# Altium footprint library Embedded.PcbLib: 8 footprints (part 3 of 3)
Each footprint in its own frame and in the unit in brackets; x right, y up, seen from the top. Pads: shape width x height; smd on the part's side, far side on the other; paste and mask are expansions set on the pad; w line width, h text height; cw(c..) or ccw(c..) is an arc to the next point about the centre after c.
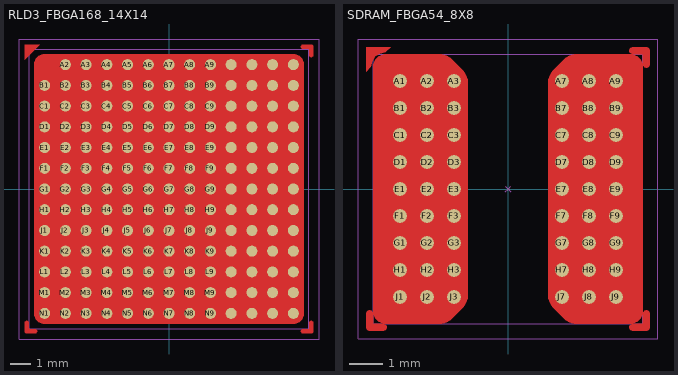
[diagram p2: the footprints below, top view; thin cyan lines are the x and y axes]

## RLD3_FBGA168_14X14 [mil] "RLDRAM3"
height 43.31
pads (168):
  round 21 smd mask+2: A2(-196.85,236.22) A3(-157.48,236.22) A4(-118.11,236.22) A5(-78.74,236.22) A6(-39.37,236.22) A7(0,236.22) A8(39.37,236.22) A9(78.74,236.22) A10(118.11,236.22) A11(157.48,236.22) A12(196.85,236.22) A13(236.22,236.22) B1(-236.22,196.85) B2(-196.85,196.85) B3(-157.48,196.85) B4(-118.11,196.85) B5(-78.74,196.85) B6(-39.37,196.85) B7(0,196.85) B8(39.37,196.85) B9(78.74,196.85) B10(118.11,196.85) B11(157.48,196.85) B12(196.85,196.85) B13(236.22,196.85) C1(-236.22,157.48) C2(-196.85,157.48) C3(-157.48,157.48) C4(-118.11,157.48) C5(-78.74,157.48) C6(-39.37,157.48) C7(0,157.48) C8(39.37,157.48) C9(78.74,157.48) C10(118.11,157.48) C11(157.48,157.48) C12(196.85,157.48) C13(236.22,157.48) D1(-236.22,118.11) D2(-196.85,118.11) D3(-157.48,118.11) D4(-118.11,118.11) D5(-78.74,118.11) D6(-39.37,118.11) D7(0,118.11) D8(39.37,118.11) D9(78.74,118.11) D10(118.11,118.11) D11(157.48,118.11) D12(196.85,118.11) D13(236.22,118.11) E1(-236.22,78.74) E2(-196.85,78.74) E3(-157.48,78.74) E4(-118.11,78.74) E5(-78.74,78.74) E6(-39.37,78.74) E7(0,78.74) E8(39.37,78.74) E9(78.74,78.74) E10(118.11,78.74) E11(157.48,78.74) E12(196.85,78.74) E13(236.22,78.74) F1(-236.22,39.37) F2(-196.85,39.37) F3(-157.48,39.37) F4(-118.11,39.37) F5(-78.74,39.37) F6(-39.37,39.37) F7(0,39.37) F8(39.37,39.37) F9(78.74,39.37) F10(118.11,39.37) F11(157.48,39.37) F12(196.85,39.37) F13(236.22,39.37) G1(-236.22,0) G2(-196.85,0) G3(-157.48,0) G4(-118.11,0) G5(-78.74,0) G6(-39.37,0) G7(0,0) G8(39.37,0) G9(78.74,0) G10(118.11,0) G11(157.48,0) G12(196.85,0) G13(236.22,0) H1(-236.22,-39.37) H2(-196.85,-39.37) H3(-157.48,-39.37) H4(-118.11,-39.37) H5(-78.74,-39.37) H6(-39.37,-39.37) H7(0,-39.37) H8(39.37,-39.37) H9(78.74,-39.37) H10(118.11,-39.37) H11(157.48,-39.37) H12(196.85,-39.37) H13(236.22,-39.37) J1(-236.22,-78.74) J2(-196.85,-78.74) J3(-157.48,-78.74) J4(-118.11,-78.74) J5(-78.74,-78.74) J6(-39.37,-78.74) J7(0,-78.74) J8(39.37,-78.74) J9(78.74,-78.74) J10(118.11,-78.74) J11(157.48,-78.74) J12(196.85,-78.74) J13(236.22,-78.74) K1(-236.22,-118.11) K2(-196.85,-118.11) K3(-157.48,-118.11) K4(-118.11,-118.11) K5(-78.74,-118.11) K6(-39.37,-118.11) K7(0,-118.11) K8(39.37,-118.11) K9(78.74,-118.11) K10(118.11,-118.11) K11(157.48,-118.11) K12(196.85,-118.11) K13(236.22,-118.11) L1(-236.22,-157.48) L2(-196.85,-157.48) L3(-157.48,-157.48) L4(-118.11,-157.48) L5(-78.74,-157.48) L6(-39.37,-157.48) L7(0,-157.48) L8(39.37,-157.48) L9(78.74,-157.48) L10(118.11,-157.48) L11(157.48,-157.48) L12(196.85,-157.48) L13(236.22,-157.48) M1(-236.22,-196.85) M2(-196.85,-196.85) M3(-157.48,-196.85) M4(-118.11,-196.85) M5(-78.74,-196.85) M6(-39.37,-196.85) M7(0,-196.85) M8(39.37,-196.85) M9(78.74,-196.85) M10(118.11,-196.85) M11(157.48,-196.85) M12(196.85,-196.85) M13(236.22,-196.85) N1(-236.22,-236.22) N2(-196.85,-236.22) N3(-157.48,-236.22) N4(-118.11,-236.22) N5(-78.74,-236.22) N6(-39.37,-236.22) N7(0,-236.22) N8(39.37,-236.22) N9(78.74,-236.22) N10(118.11,-236.22) N11(157.48,-236.22) N12(196.85,-236.22) N13(236.22,-236.22)
Top Layer:
  region: 266.21,254.21 266.21,253.42 266.82,251.95 267.95,250.82 269.42,250.21 270.21,250.21 271.01,250.21 272.48,250.82 273.6,251.95 274.21,253.42 274.21,254.21 274.21,270.21 274.21,271.01 273.6,272.48 272.48,273.6 271.01,274.21 270.21,274.21 254.21,274.21 253.42,274.21 251.95,273.6 250.82,272.48 250.21,271.01 250.21,270.21 250.21,269.42 250.82,267.95 251.95,266.82 253.42,266.21 254.21,266.21 264.21,266.21 264.6,266.17 265.32,265.88 265.87,265.32 266.17,264.6 266.21,264.21
  region: 254.21,-266.21 253.42,-266.21 251.95,-266.82 250.82,-267.95 250.21,-269.42 250.21,-270.21 250.21,-271.01 250.82,-272.48 251.95,-273.6 253.42,-274.21 254.21,-274.21 270.21,-274.21 271.01,-274.21 272.48,-273.6 273.6,-272.48 274.21,-271.01 274.21,-270.21 274.21,-254.21 274.21,-253.42 273.6,-251.95 272.48,-250.82 271.01,-250.21 270.21,-250.21 269.42,-250.21 267.95,-250.82 266.82,-251.95 266.21,-253.42 266.21,-254.21 266.21,-264.21 266.17,-264.6 265.88,-265.32 265.32,-265.87 264.6,-266.17 264.21,-266.21
  region: -266.21,-254.21 -266.21,-253.42 -266.82,-251.95 -267.95,-250.82 -269.42,-250.21 -270.21,-250.21 -271.01,-250.21 -272.48,-250.82 -273.6,-251.95 -274.21,-253.42 -274.21,-254.21 -274.21,-270.21 -274.21,-271.01 -273.6,-272.48 -272.48,-273.6 -271.01,-274.21 -270.21,-274.21 -254.21,-274.21 -253.42,-274.21 -251.95,-273.6 -250.82,-272.48 -250.21,-271.01 -250.21,-270.21 -250.21,-269.42 -250.82,-267.95 -251.95,-266.82 -253.42,-266.21 -254.21,-266.21 -264.21,-266.21 -264.6,-266.17 -265.32,-265.88 -265.87,-265.32 -266.17,-264.6 -266.21,-264.21
  region: -274.21,274.21 -274.21,245.67 -245.67,274.21
  pour cut-out: 236.22,255.91 240.14,255.91 247.37,252.91 252.91,247.37 255.91,240.14 255.91,236.22 255.91,-236.22 255.91,-240.14 252.91,-247.37 247.37,-252.91 240.14,-255.91 236.22,-255.91 -236.22,-255.91 -240.14,-255.91 -247.37,-252.91 -252.91,-247.37 -255.91,-240.14 -255.91,-236.22 -255.91,236.22 -255.91,240.14 -252.91,247.37 -247.37,252.91 -240.14,255.91 -236.22,255.91
Top Designator:
  text ".Designator" at -127.64,-12.5 h35
Top Component Center:
  lines w1: -3,-3 0,0 ; -3,3 0,0 ; 3,-3 0,0 ; 3,3 0,0
Top Courtyard:
  lines w1: -285,-285 -285,285 285,285 285,-285 -285,-285
Top Component Outline:
  lines w1: -265.75,-265.75 -265.75,265.75 265.75,265.75 265.75,-265.75 -265.75,-265.75
3D body: height 43.4, standoff 43, extent -247.95,228.07 -228.03,248.04
3D body: height 43.31, standoff 11.81, extent -265.75,-265.75 265.75,265.75
3D body: height 21.81, standoff -1.81, extent -247.95,-51.18 -224.5,-27.55
3D body: height 21.81, standoff -1.81, extent -247.95,-90.55 -224.5,-66.92
3D body: height 21.81, standoff -1.81, extent -247.95,-129.92 -224.5,-106.29
3D body: height 21.81, standoff -1.81, extent -247.95,-169.29 -224.5,-145.66
3D body: height 21.81, standoff -1.81, extent -247.95,-208.66 -224.5,-185.03
3D body: height 21.81, standoff -1.81, extent -247.95,-248.03 -224.5,-224.4
3D body: height 21.81, standoff -1.81, extent -247.95,-11.81 -224.5,11.82
3D body: height 21.81, standoff -1.81, extent -247.95,27.56 -224.5,51.19
3D body: height 21.81, standoff -1.81, extent -247.95,66.93 -224.5,90.56
3D body: height 21.81, standoff -1.81, extent -247.95,106.3 -224.5,129.93
3D body: height 21.81, standoff -1.81, extent -247.95,145.67 -224.5,169.3
3D body: height 21.81, standoff -1.81, extent -247.95,185.04 -224.5,208.67
3D body: height 21.81, standoff -1.81, extent -208.58,224.41 -185.13,248.04
3D body: height 21.81, standoff -1.81, extent -208.58,185.04 -185.13,208.67
3D body: height 21.81, standoff -1.81, extent -208.58,145.67 -185.13,169.3
3D body: height 21.81, standoff -1.81, extent -208.58,106.3 -185.13,129.93
3D body: height 21.81, standoff -1.81, extent -208.58,66.93 -185.13,90.56
3D body: height 21.81, standoff -1.81, extent -208.58,27.56 -185.13,51.19
3D body: height 21.81, standoff -1.81, extent -208.58,-11.81 -185.13,11.82
3D body: height 21.81, standoff -1.81, extent -208.58,-248.03 -185.13,-224.4
3D body: height 21.81, standoff -1.81, extent -208.58,-208.66 -185.13,-185.03
3D body: height 21.81, standoff -1.81, extent -208.58,-169.29 -185.13,-145.66
3D body: height 21.81, standoff -1.81, extent -208.58,-129.92 -185.13,-106.29
3D body: height 21.81, standoff -1.81, extent -208.58,-90.55 -185.13,-66.92
3D body: height 21.81, standoff -1.81, extent -208.58,-51.18 -185.13,-27.55
3D body: height 21.81, standoff -1.81, extent -169.21,224.41 -145.76,248.04
3D body: height 21.81, standoff -1.81, extent -169.21,185.04 -145.76,208.67
3D body: height 21.81, standoff -1.81, extent -169.21,145.67 -145.76,169.3
3D body: height 21.81, standoff -1.81, extent -169.21,106.3 -145.76,129.93
3D body: height 21.81, standoff -1.81, extent -169.21,66.93 -145.76,90.56
3D body: height 21.81, standoff -1.81, extent -169.21,27.56 -145.76,51.19
3D body: height 21.81, standoff -1.81, extent -169.21,-11.81 -145.76,11.82
3D body: height 21.81, standoff -1.81, extent -169.21,-248.03 -145.76,-224.4
3D body: height 21.81, standoff -1.81, extent -169.21,-208.66 -145.76,-185.03
3D body: height 21.81, standoff -1.81, extent -169.21,-169.29 -145.76,-145.66
3D body: height 21.81, standoff -1.81, extent -169.21,-129.92 -145.76,-106.29
3D body: height 21.81, standoff -1.81, extent -169.21,-90.55 -145.76,-66.92
3D body: height 21.81, standoff -1.81, extent -169.21,-51.18 -145.76,-27.55
3D body: height 21.81, standoff -1.81, extent -129.84,224.41 -106.39,248.04
3D body: height 21.81, standoff -1.81, extent -129.84,185.04 -106.39,208.67
3D body: height 21.81, standoff -1.81, extent -129.84,145.67 -106.39,169.3
3D body: height 21.81, standoff -1.81, extent -129.84,106.3 -106.39,129.93
3D body: height 21.81, standoff -1.81, extent -129.84,66.93 -106.39,90.56
3D body: height 21.81, standoff -1.81, extent -129.84,27.56 -106.39,51.19
3D body: height 21.81, standoff -1.81, extent -129.84,-11.81 -106.39,11.82
3D body: height 21.81, standoff -1.81, extent -129.84,-248.03 -106.39,-224.4
3D body: height 21.81, standoff -1.81, extent -129.84,-208.66 -106.39,-185.03
3D body: height 21.81, standoff -1.81, extent -129.84,-169.29 -106.39,-145.66
3D body: height 21.81, standoff -1.81, extent -129.84,-129.92 -106.39,-106.29
3D body: height 21.81, standoff -1.81, extent -129.84,-90.55 -106.39,-66.92
3D body: height 21.81, standoff -1.81, extent -129.84,-51.18 -106.39,-27.55
3D body: height 21.81, standoff -1.81, extent -90.46,224.41 -67.02,248.04
3D body: height 21.81, standoff -1.81, extent -90.46,185.04 -67.02,208.67
3D body: height 21.81, standoff -1.81, extent -90.46,145.67 -67.02,169.3
3D body: height 21.81, standoff -1.81, extent -90.46,106.3 -67.02,129.93
3D body: height 21.81, standoff -1.81, extent -90.46,66.93 -67.02,90.56
3D body: height 21.81, standoff -1.81, extent -90.46,27.56 -67.02,51.19
3D body: height 21.81, standoff -1.81, extent -90.46,-11.81 -67.02,11.82
3D body: height 21.81, standoff -1.81, extent -90.46,-248.03 -67.02,-224.4
3D body: height 21.81, standoff -1.81, extent -90.46,-208.66 -67.02,-185.03
3D body: height 21.81, standoff -1.81, extent -90.46,-169.29 -67.02,-145.66
3D body: height 21.81, standoff -1.81, extent -90.46,-129.92 -67.02,-106.29
3D body: height 21.81, standoff -1.81, extent -90.46,-90.55 -67.02,-66.92
3D body: height 21.81, standoff -1.81, extent -90.46,-51.18 -67.02,-27.55
3D body: height 21.81, standoff -1.81, extent 106.39,-51.18 129.84,-27.55
3D body: height 21.81, standoff -1.81, extent 106.39,-90.55 129.84,-66.92
3D body: height 21.81, standoff -1.81, extent 106.39,-129.92 129.84,-106.29
3D body: height 21.81, standoff -1.81, extent 106.39,-169.29 129.84,-145.66
3D body: height 21.81, standoff -1.81, extent 106.39,-208.66 129.84,-185.03
3D body: height 21.81, standoff -1.81, extent 106.39,-248.03 129.84,-224.4
3D body: height 21.81, standoff -1.81, extent 106.39,-11.81 129.84,11.82
3D body: height 21.81, standoff -1.81, extent 106.39,27.56 129.84,51.19
3D body: height 21.81, standoff -1.81, extent 106.39,66.93 129.84,90.56
3D body: height 21.81, standoff -1.81, extent 106.39,106.3 129.84,129.93
3D body: height 21.81, standoff -1.81, extent 106.39,145.67 129.84,169.3
3D body: height 21.81, standoff -1.81, extent 106.39,185.04 129.84,208.67
3D body: height 21.81, standoff -1.81, extent 106.39,224.41 129.84,248.04
3D body: height 21.81, standoff -1.81, extent 67.02,-51.18 90.47,-27.55
3D body: height 21.81, standoff -1.81, extent 67.02,-90.55 90.47,-66.92
3D body: height 21.81, standoff -1.81, extent 67.02,-129.92 90.47,-106.29
3D body: height 21.81, standoff -1.81, extent 67.02,-169.29 90.47,-145.66
3D body: height 21.81, standoff -1.81, extent 67.02,-208.66 90.47,-185.03
3D body: height 21.81, standoff -1.81, extent 67.02,-248.03 90.47,-224.4
3D body: height 21.81, standoff -1.81, extent 67.02,-11.81 90.47,11.82
3D body: height 21.81, standoff -1.81, extent 67.02,27.56 90.47,51.19
3D body: height 21.81, standoff -1.81, extent 67.02,66.93 90.47,90.56
3D body: height 21.81, standoff -1.81, extent 67.02,106.3 90.47,129.93
3D body: height 21.81, standoff -1.81, extent 67.02,145.67 90.47,169.3
3D body: height 21.81, standoff -1.81, extent 67.02,185.04 90.47,208.67
3D body: height 21.81, standoff -1.81, extent 67.02,224.41 90.47,248.04
3D body: height 21.81, standoff -1.81, extent 27.65,-51.18 51.09,-27.55
3D body: height 21.81, standoff -1.81, extent 27.65,-90.55 51.09,-66.92
3D body: height 21.81, standoff -1.81, extent 27.65,-129.92 51.09,-106.29
3D body: height 21.81, standoff -1.81, extent 27.65,-169.29 51.09,-145.66
3D body: height 21.81, standoff -1.81, extent 27.65,-208.66 51.09,-185.03
3D body: height 21.81, standoff -1.81, extent 27.65,-248.03 51.09,-224.4
3D body: height 21.81, standoff -1.81, extent 27.65,-11.81 51.09,11.82
3D body: height 21.81, standoff -1.81, extent 27.65,27.56 51.09,51.19
3D body: height 21.81, standoff -1.81, extent 27.65,66.93 51.09,90.56
3D body: height 21.81, standoff -1.81, extent 27.65,106.3 51.09,129.93
3D body: height 21.81, standoff -1.81, extent 27.65,145.67 51.09,169.3
3D body: height 21.81, standoff -1.81, extent 27.65,185.04 51.09,208.67
3D body: height 21.81, standoff -1.81, extent 27.65,224.41 51.09,248.04
3D body: height 21.81, standoff -1.81, extent -11.72,-51.18 11.72,-27.55
3D body: height 21.81, standoff -1.81, extent -11.72,-90.55 11.72,-66.92
3D body: height 21.81, standoff -1.81, extent -11.72,-129.92 11.72,-106.29
3D body: height 21.81, standoff -1.81, extent -11.72,-169.29 11.72,-145.66
3D body: height 21.81, standoff -1.81, extent -11.72,-208.66 11.72,-185.03
3D body: height 21.81, standoff -1.81, extent -11.72,-248.03 11.72,-224.4
3D body: height 21.81, standoff -1.81, extent -11.72,-11.81 11.72,11.82
3D body: height 21.81, standoff -1.81, extent -11.72,27.56 11.72,51.19
3D body: height 21.81, standoff -1.81, extent -11.72,66.93 11.72,90.56
3D body: height 21.81, standoff -1.81, extent -11.72,106.3 11.72,129.93
3D body: height 21.81, standoff -1.81, extent -11.72,145.67 11.72,169.3
3D body: height 21.81, standoff -1.81, extent -11.72,185.04 11.72,208.67
3D body: height 21.81, standoff -1.81, extent -11.72,224.41 11.72,248.04
3D body: height 21.81, standoff -1.81, extent -51.09,224.41 -27.65,248.04
3D body: height 21.81, standoff -1.81, extent -51.09,185.04 -27.65,208.67
3D body: height 21.81, standoff -1.81, extent -51.09,145.67 -27.65,169.3
3D body: height 21.81, standoff -1.81, extent -51.09,106.3 -27.65,129.93
3D body: height 21.81, standoff -1.81, extent -51.09,66.93 -27.65,90.56
3D body: height 21.81, standoff -1.81, extent -51.09,27.56 -27.65,51.19
3D body: height 21.81, standoff -1.81, extent -51.09,-11.81 -27.65,11.82
3D body: height 21.81, standoff -1.81, extent -51.09,-248.03 -27.65,-224.4
3D body: height 21.81, standoff -1.81, extent -51.09,-208.66 -27.65,-185.03
3D body: height 21.81, standoff -1.81, extent -51.09,-169.29 -27.65,-145.66
3D body: height 21.81, standoff -1.81, extent -51.09,-129.92 -27.65,-106.29
3D body: height 21.81, standoff -1.81, extent -51.09,-90.55 -27.65,-66.92
3D body: height 21.81, standoff -1.81, extent -51.09,-51.18 -27.65,-27.55
3D body: height 21.81, standoff -1.81, extent 145.76,224.41 169.21,248.04
3D body: height 21.81, standoff -1.81, extent 145.76,185.04 169.21,208.67
3D body: height 21.81, standoff -1.81, extent 145.76,145.67 169.21,169.3
3D body: height 21.81, standoff -1.81, extent 145.76,106.3 169.21,129.93
3D body: height 21.81, standoff -1.81, extent 145.76,66.93 169.21,90.56
3D body: height 21.81, standoff -1.81, extent 145.76,27.56 169.21,51.19
3D body: height 21.81, standoff -1.81, extent 145.76,-11.81 169.21,11.82
3D body: height 21.81, standoff -1.81, extent 145.76,-248.03 169.21,-224.4
3D body: height 21.81, standoff -1.81, extent 145.76,-208.66 169.21,-185.03
3D body: height 21.81, standoff -1.81, extent 145.76,-169.29 169.21,-145.66
3D body: height 21.81, standoff -1.81, extent 145.76,-129.92 169.21,-106.29
3D body: height 21.81, standoff -1.81, extent 145.76,-90.55 169.21,-66.92
3D body: height 21.81, standoff -1.81, extent 145.76,-51.18 169.21,-27.55
3D body: height 21.81, standoff -1.81, extent 185.13,224.41 208.58,248.04
3D body: height 21.81, standoff -1.81, extent 185.13,185.04 208.58,208.67
3D body: height 21.81, standoff -1.81, extent 185.13,145.67 208.58,169.3
3D body: height 21.81, standoff -1.81, extent 185.13,106.3 208.58,129.93
3D body: height 21.81, standoff -1.81, extent 185.13,66.93 208.58,90.56
3D body: height 21.81, standoff -1.81, extent 185.13,27.56 208.58,51.19
3D body: height 21.81, standoff -1.81, extent 185.13,-11.81 208.58,11.82
3D body: height 21.81, standoff -1.81, extent 185.13,-248.03 208.58,-224.4
3D body: height 21.81, standoff -1.81, extent 185.13,-208.66 208.58,-185.03
3D body: height 21.81, standoff -1.81, extent 185.13,-169.29 208.58,-145.66
3D body: height 21.81, standoff -1.81, extent 185.13,-129.92 208.58,-106.29
3D body: height 21.81, standoff -1.81, extent 185.13,-90.55 208.58,-66.92
3D body: height 21.81, standoff -1.81, extent 185.13,-51.18 208.58,-27.55
3D body: height 21.81, standoff -1.81, extent 224.5,224.41 247.95,248.04
3D body: height 21.81, standoff -1.81, extent 224.5,185.04 247.95,208.67
3D body: height 21.81, standoff -1.81, extent 224.5,145.67 247.95,169.3
3D body: height 21.81, standoff -1.81, extent 224.5,106.3 247.95,129.93
3D body: height 21.81, standoff -1.81, extent 224.5,66.93 247.95,90.56
3D body: height 21.81, standoff -1.81, extent 224.5,27.56 247.95,51.19
3D body: height 21.81, standoff -1.81, extent 224.5,-11.81 247.95,11.82
3D body: height 21.81, standoff -1.81, extent 224.5,-248.03 247.95,-224.4
3D body: height 21.81, standoff -1.81, extent 224.5,-208.66 247.95,-185.03
3D body: height 21.81, standoff -1.81, extent 224.5,-169.29 247.95,-145.66
3D body: height 21.81, standoff -1.81, extent 224.5,-129.92 247.95,-106.29
3D body: height 21.81, standoff -1.81, extent 224.5,-90.55 247.95,-66.92
3D body: height 21.81, standoff -1.81, extent 224.5,-51.18 247.95,-27.55

## SDRAM_FBGA54_8X8 [mil] "SDRAM X16 8X8MM"
height 35.43
pads (54):
  round 16 smd mask+2: A1(-125.98,125.98) A2(-94.49,125.98) A3(-62.99,125.98) A7(62.99,125.98) A8(94.49,125.98) A9(125.98,125.98) B1(-125.98,94.49) B2(-94.49,94.49) B3(-62.99,94.49) B7(62.99,94.49) B8(94.49,94.49) B9(125.98,94.49) C1(-125.98,62.99) C2(-94.49,62.99) C3(-62.99,62.99) C7(62.99,62.99) C8(94.49,62.99) C9(125.98,62.99) D1(-125.98,31.5) D2(-94.49,31.5) D3(-62.99,31.5) D7(62.99,31.5) D8(94.49,31.5) D9(125.98,31.5) E1(-125.98,0) E2(-94.49,0) E3(-62.99,0) E7(62.99,0) E8(94.49,0) E9(125.98,0) F1(-125.98,-31.5) F2(-94.49,-31.5) F3(-62.99,-31.5) F7(62.99,-31.5) F8(94.49,-31.5) F9(125.98,-31.5) G1(-125.98,-62.99) G2(-94.49,-62.99) G3(-62.99,-62.99) G7(62.99,-62.99) G8(94.49,-62.99) G9(125.98,-62.99) H1(-125.98,-94.49) H2(-94.49,-94.49) H3(-62.99,-94.49) H7(62.99,-94.49) H8(94.49,-94.49) H9(125.98,-94.49) J1(-125.98,-125.98) J2(-94.49,-125.98) J3(-62.99,-125.98) J7(62.99,-125.98) J8(94.49,-125.98) J9(125.98,-125.98)
Top Layer:
  region: -165.48,165.48 -165.48,136.94 -159.93,142.49 -158.43,149.18 -155,155 -149.64,157.97 -142.95,159.47 -136.94,165.48
  pour cut-out: 141.73,-157.48 144.86,-157.48 150.65,-155.08 155.08,-150.65 157.48,-144.86 157.48,-141.73 157.48,141.73 157.48,144.86 155.08,150.65 150.65,155.08 144.86,157.48 141.73,157.48 78.74,157.48 77.19,157.48 74.15,156.88 71.28,155.69 68.7,153.96 67.6,152.87 51.86,137.12 50.76,136.02 49.04,133.44 47.85,130.58 47.24,127.54 47.24,125.98 47.24,-125.98 47.24,-127.54 47.85,-130.58 49.04,-133.44 50.76,-136.02 51.86,-137.12 67.6,-152.87 68.7,-153.96 71.28,-155.69 74.15,-156.88 77.19,-157.48 78.74,-157.48
  pour cut-out: -141.73,157.48 -144.86,157.48 -150.65,155.08 -155.08,150.65 -157.48,144.86 -157.48,141.73 -157.48,-141.73 -157.48,-144.86 -155.08,-150.65 -150.65,-155.08 -144.86,-157.48 -141.73,-157.48 -78.74,-157.48 -77.19,-157.48 -74.15,-156.88 -71.28,-155.69 -68.7,-153.96 -67.6,-152.87 -51.86,-137.12 -50.76,-136.02 -49.04,-133.44 -47.85,-130.58 -47.24,-127.54 -47.24,-125.98 -47.24,125.98 -47.24,127.54 -47.85,130.58 -49.04,133.44 -50.76,136.02 -51.86,137.12 -67.6,152.87 -68.7,153.96 -71.28,155.69 -74.15,156.88 -77.19,157.48 -78.74,157.48
  region: 157.48,145.48 157.48,144.68 158.09,143.21 159.21,142.09 160.68,141.48 161.48,141.48 162.28,141.48 163.75,142.09 164.87,143.21 165.48,144.68 165.48,145.48 165.48,161.48 165.48,162.28 164.87,163.75 163.75,164.87 162.28,165.48 161.48,165.48 145.48,165.48 144.68,165.48 143.21,164.87 142.09,163.75 141.48,162.28 141.48,161.48 141.48,160.68 142.09,159.21 143.21,158.09 144.68,157.48 145.48,157.48 155.48,157.48 155.87,157.44 156.59,157.14 157.14,156.59 157.44,155.87 157.48,155.48
  region: 145.48,-157.48 144.68,-157.48 143.21,-158.09 142.09,-159.21 141.48,-160.68 141.48,-161.48 141.48,-162.28 142.09,-163.75 143.21,-164.87 144.68,-165.48 145.48,-165.48 161.48,-165.48 162.28,-165.48 163.75,-164.87 164.87,-163.75 165.48,-162.28 165.48,-161.48 165.48,-145.48 165.48,-144.68 164.87,-143.21 163.75,-142.09 162.28,-141.48 161.48,-141.48 160.68,-141.48 159.21,-142.09 158.09,-143.21 157.48,-144.68 157.48,-145.48 157.48,-155.48 157.44,-155.87 157.14,-156.59 156.59,-157.14 155.87,-157.44 155.48,-157.48
  region: -157.48,-145.48 -157.48,-144.68 -158.09,-143.21 -159.21,-142.09 -160.68,-141.48 -161.48,-141.48 -162.28,-141.48 -163.75,-142.09 -164.87,-143.21 -165.48,-144.68 -165.48,-145.48 -165.48,-161.48 -165.48,-162.28 -164.87,-163.75 -163.75,-164.87 -162.28,-165.48 -161.48,-165.48 -145.48,-165.48 -144.68,-165.48 -143.21,-164.87 -142.09,-163.75 -141.48,-162.28 -141.48,-161.48 -141.48,-160.68 -142.09,-159.21 -143.21,-158.09 -144.68,-157.48 -145.48,-157.48 -155.48,-157.48 -155.87,-157.44 -156.59,-157.14 -157.14,-156.59 -157.44,-155.87 -157.48,-155.48
Top Designator:
  text ".Designator" at 12.5,-127.64 h35
Top Component Center:
  lines w1: -3,-3 0,0 ; -3,3 0,0 ; 3,-3 0,0 ; 3,3 0,0
Top Courtyard:
  lines w1: -175,-175 -175,175 175,175 175,-175 -175,-175
Top Component Outline:
  lines w1: -157.48,-157.48 157.48,-157.48 157.48,157.48 -157.48,157.48 -157.48,-157.48
3D body: height 43.4, standoff 43, extent -135.9,116 -115.98,135.97
3D body: height 43.31, standoff 11.81, extent -157.48,-157.48 157.48,157.48
3D body: height 16.84, standoff -2.84, extent 116.18,-135.88 135.78,-116.29
3D body: height 16.84, standoff -2.84, extent 116.18,-9.89 135.78,9.69
3D body: height 16.84, standoff -2.84, extent 116.18,-41.39 135.78,-21.8
3D body: height 16.84, standoff -2.84, extent 116.18,-72.89 135.78,-53.3
3D body: height 16.84, standoff -2.84, extent 116.18,-104.38 135.78,-84.8
3D body: height 16.84, standoff -2.84, extent 116.18,21.6 135.78,41.19
3D body: height 16.84, standoff -2.84, extent 116.18,53.1 135.78,72.68
3D body: height 16.84, standoff -2.84, extent 116.18,84.6 135.78,104.18
3D body: height 16.84, standoff -2.84, extent 116.18,116.09 135.78,135.68
3D body: height 16.84, standoff -2.84, extent 84.68,-135.88 104.29,-116.29
3D body: height 16.84, standoff -2.84, extent 84.68,-9.89 104.29,9.69
3D body: height 16.84, standoff -2.84, extent 84.68,-41.39 104.29,-21.8
3D body: height 16.84, standoff -2.84, extent 84.68,-72.89 104.29,-53.3
3D body: height 16.84, standoff -2.84, extent 84.68,-104.38 104.29,-84.8
3D body: height 16.84, standoff -2.84, extent 84.68,21.6 104.29,41.19
3D body: height 16.84, standoff -2.84, extent 84.68,53.1 104.29,72.68
3D body: height 16.84, standoff -2.84, extent 84.68,84.6 104.29,104.18
3D body: height 16.84, standoff -2.84, extent 84.68,116.09 104.29,135.68
3D body: height 16.84, standoff -2.84, extent 53.19,-135.88 72.79,-116.29
3D body: height 16.84, standoff -2.84, extent 53.19,-9.89 72.79,9.69
3D body: height 16.84, standoff -2.84, extent 53.19,-41.39 72.79,-21.8
3D body: height 16.84, standoff -2.84, extent 53.19,-72.89 72.79,-53.3
3D body: height 16.84, standoff -2.84, extent 53.19,-104.38 72.79,-84.8
3D body: height 16.84, standoff -2.84, extent 53.19,21.6 72.79,41.19
3D body: height 16.84, standoff -2.84, extent 53.19,53.1 72.79,72.68
3D body: height 16.84, standoff -2.84, extent 53.19,84.6 72.79,104.18
3D body: height 16.84, standoff -2.84, extent 53.19,116.09 72.79,135.68
3D body: height 16.84, standoff -2.84, extent -72.8,-135.88 -53.19,-116.29
3D body: height 16.84, standoff -2.84, extent -72.8,-9.89 -53.19,9.69
3D body: height 16.84, standoff -2.84, extent -72.8,-41.39 -53.19,-21.8
3D body: height 16.84, standoff -2.84, extent -72.8,-72.89 -53.19,-53.3
3D body: height 16.84, standoff -2.84, extent -72.8,-104.38 -53.19,-84.8
3D body: height 16.84, standoff -2.84, extent -72.8,21.6 -53.19,41.19
3D body: height 16.84, standoff -2.84, extent -72.8,53.1 -53.19,72.68
3D body: height 16.84, standoff -2.84, extent -72.8,84.6 -53.19,104.18
3D body: height 16.84, standoff -2.84, extent -72.8,116.09 -53.19,135.68
3D body: height 16.84, standoff -2.84, extent -104.29,-135.88 -84.69,-116.29
3D body: height 16.84, standoff -2.84, extent -104.29,-9.89 -84.69,9.69
3D body: height 16.84, standoff -2.84, extent -104.29,-41.39 -84.69,-21.8
3D body: height 16.84, standoff -2.84, extent -104.29,-72.89 -84.69,-53.3
3D body: height 16.84, standoff -2.84, extent -104.29,-104.38 -84.69,-84.8
3D body: height 16.84, standoff -2.84, extent -104.29,21.6 -84.69,41.19
3D body: height 16.84, standoff -2.84, extent -104.29,53.1 -84.69,72.68
3D body: height 16.84, standoff -2.84, extent -104.29,84.6 -84.69,104.18
3D body: height 16.84, standoff -2.84, extent -104.29,116.09 -84.69,135.68
3D body: height 16.84, standoff -2.84, extent -135.79,-135.88 -116.19,-116.29
3D body: height 16.84, standoff -2.84, extent -135.79,-9.89 -116.19,9.69
3D body: height 16.84, standoff -2.84, extent -135.79,-41.39 -116.19,-21.8
3D body: height 16.84, standoff -2.84, extent -135.79,-72.89 -116.19,-53.3
3D body: height 16.84, standoff -2.84, extent -135.79,-104.38 -116.19,-84.8
3D body: height 16.84, standoff -2.84, extent -135.79,21.6 -116.19,41.19
3D body: height 16.84, standoff -2.84, extent -135.79,53.1 -116.19,72.68
3D body: height 16.84, standoff -2.84, extent -135.79,84.6 -116.19,104.18
3D body: height 16.84, standoff -2.84, extent -135.79,116.09 -116.19,135.68